# Altium integrated library DSPIC30F4013-30I_P.IntLib: 1 symbol
Pins are listed as number, name and electrical type; pins without a type are passive.

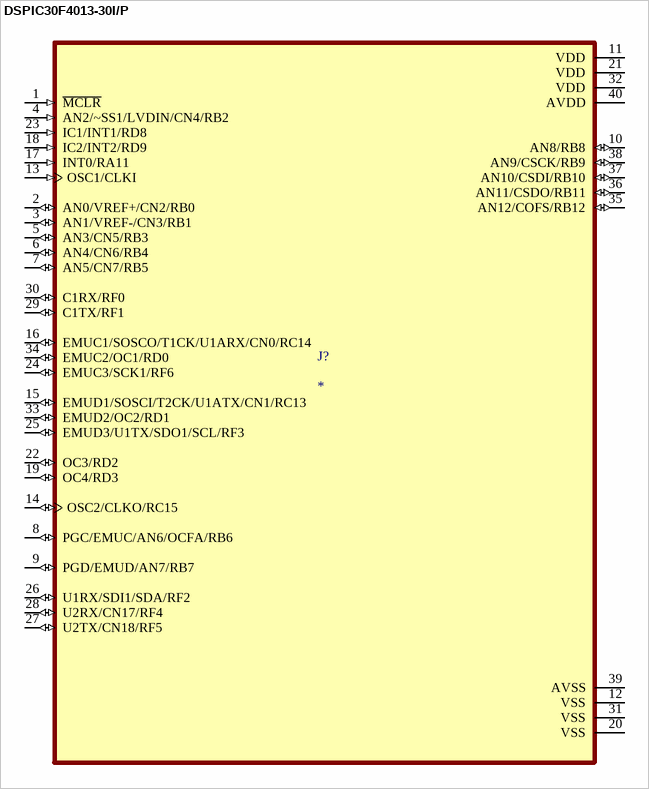
[diagram p0: symbol DSPIC30F4013-30I/P]

## DSPIC30F4013-30I/P
designator J?
Digital Signal Processors, DSP, DSC General Purpose | Microchip Technology Inc. DSPIC30F4013-30I/P; SnapEDA_Link: https://www.snapeda.com/parts/DSPIC30F4013-30I/P/Microchip/view-part/?ref=snap; Package: DIP-40 Microchip; Value: *; MF: Microchip; MP: DSPIC30F4013-30I/P; Check_prices: https://www.snapeda.com/parts/DSPIC30F4013-30I/P/Microchip/view-part/?ref=eda
footprint QFP80P1200X1200X120-44N
pins: 1 ~{MCLR} (in), 2 AN0/VREF+/CN2/RB0 (io), 3 AN1/VREF-/CN3/RB1 (io), 4 AN2/~SS1/LVDIN/CN4/RB2 (in), 5 AN3/CN5/RB3 (io), 6 AN4/CN6/RB4 (io), 7 AN5/CN7/RB5 (io), 8 PGC/EMUC/AN6/OCFA/RB6 (io), 9 PGD/EMUD/AN7/RB7 (io), 10 AN8/RB8 (io), 11 VDD (power), 12 VSS (power), 13 OSC1/CLKI (in), 14 OSC2/CLKO/RC15 (io), 15 EMUD1/SOSCI/T2CK/U1ATX/CN1/RC13 (io), 16 EMUC1/SOSCO/T1CK/U1ARX/CN0/RC14 (io), 17 INT0/RA11 (in), 18 IC2/INT2/RD9 (in), 19 OC4/RD3 (io), 20 VSS (power), 21 VDD (power), 22 OC3/RD2 (io), 23 IC1/INT1/RD8 (in), 24 EMUC3/SCK1/RF6 (io), 25 EMUD3/U1TX/SDO1/SCL/RF3 (io), 26 U1RX/SDI1/SDA/RF2 (io), 27 U2TX/CN18/RF5 (io), 28 U2RX/CN17/RF4 (io), 29 C1TX/RF1 (io), 30 C1RX/RF0 (io), 31 VSS (power), 32 VDD (power), 33 EMUD2/OC2/RD1 (io), 34 EMUC2/OC1/RD0 (io), 35 AN12/COFS/RB12 (io), 36 AN11/CSDO/RB11 (io), 37 AN10/CSDI/RB10 (io), 38 AN9/CSCK/RB9 (io), 39 AVSS (power), 40 AVDD (power)